# Altium schematic symbol library IGT60R070D1ATMA1.SchLib: 1 symbol
Pins are listed as number, name and electrical type; pins without a type are passive.

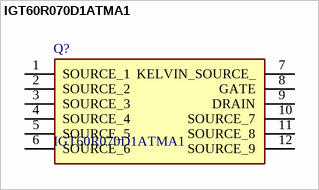
[diagram p0: symbol IGT60R070D1ATMA1]

## IGT60R070D1ATMA1
designator Q?
Gallium nitride CoolGaN 600V e-mode power transistor IGT60R070D1 for ultimate efficiency and reliability; Manufacturer_Name: Infineon; Geometry.Height: 2.3mm; Manufacturer_Part_Number: IGT60R070D1ATMA1; Mouser Part Number: 726-IGT60R070D1ATMA1; Mouser Price/Stock: https://www.mouser.co.uk/ProductDetail/Infineon-Technologies/IGT60R070D1ATMA1?qs=qSfuJ%252Bfl%2Fd6UBZbKTxAvTA%3D%3D; Arrow Part Number: IGT60R070D1ATMA1; Arrow Price/Stock: https://www.arrow.com/en/products/igt60r070d1atma1/infineon-technologies-ag?region=nac; Datasheet Link: https://www.infineon.com/part/IGT60R070D1
footprint IGT60R070D1ATMA1
pins: 1 SOURCE_1, 2 SOURCE_2, 3 SOURCE_3, 4 SOURCE_4, 5 SOURCE_5, 6 SOURCE_6, 7 KELVIN_SOURCE_, 8 GATE, 9 DRAIN, 10 SOURCE_7, 11 SOURCE_8, 12 SOURCE_9